# EAGLE library part SIDE_PORT_TI99_CONN (library ti994a)
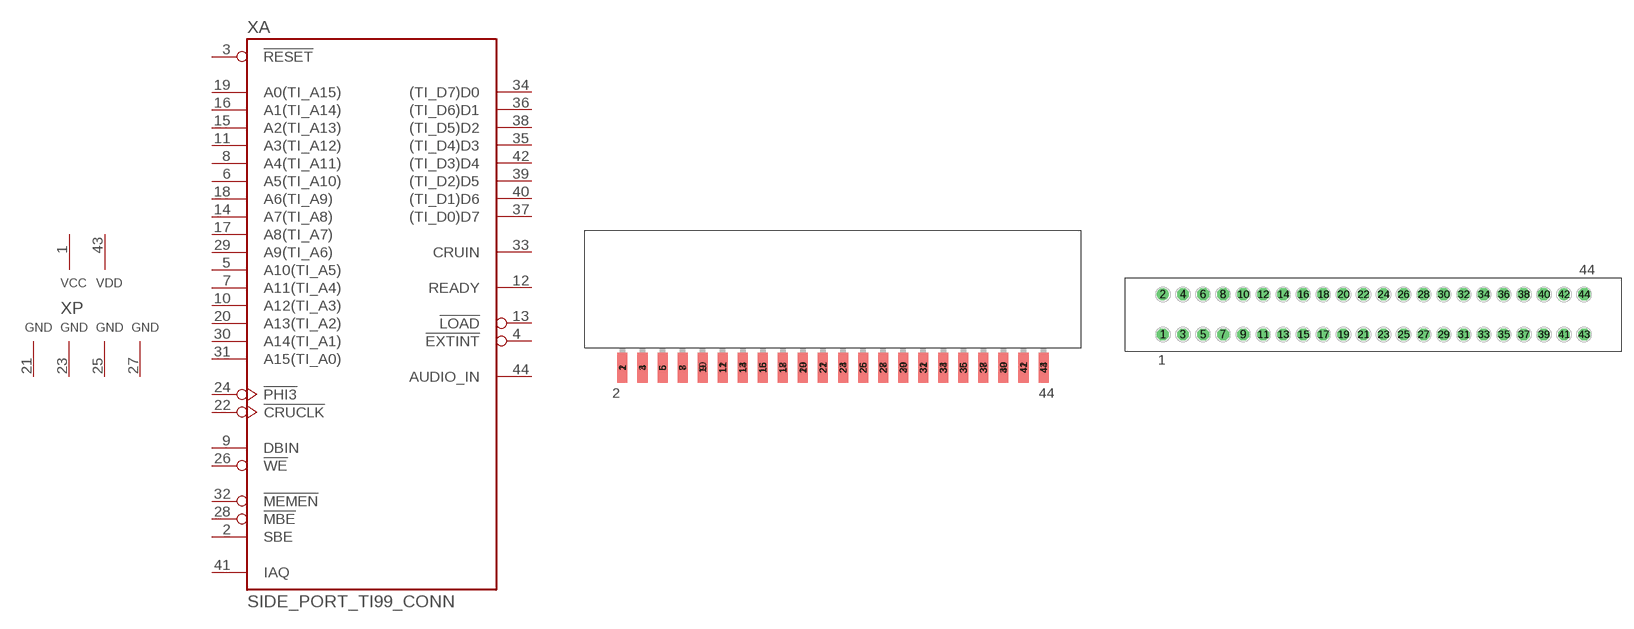
[diagram p1: symbol with the pads of FE100-22-2_EDGE; footprints FE100-22-2_EDGE, FE100-22-2]

Designator prefix X; gates A=TI994/A_SIDE_CONN P=PWR_VCC_VDD_4GND

## SIDE_PORT_TI99_CONN  [FE100-22-2_EDGE]
1  P:VCC  pwr
2  A:SBE  out
3  A:!RESET  pas
4  A:!EXTINT  hiz
5  A:A10(TI_A5)  out
6  A:A5(TI_A10)  out
7  A:A11(TI_A4)  out
8  A:A4(TI_A11)  out
9  A:DBIN  out
10  A:A12(TI_A3)  out
11  A:A3(TI_A12)  out
12  A:READY  in
13  A:!LOAD  hiz
14  A:A7(TI_A8)  out
15  A:A2(TI_A13)  out
16  A:A1(TI_A14)  out
17  A:A8(TI_A7)  out
18  A:A6(TI_A9)  out
19  A:A0(TI_A15)  out
20  A:A13(TI_A2)  out
21  P:GND  pwr
22  A:!CRUCLK  out
23  P:GND  pwr
24  A:!PHI3  out
25  P:GND  pwr
26  A:!WE  out
27  P:GND  pwr
28  A:!MBE  out
29  A:A9(TI_A6)  out
30  A:A14(TI_A1)  out
31  A:A15(TI_A0)  out
32  A:!MEMEN  out
33  A:CRUIN  in
34  A:(TI_D7)D0
35  A:(TI_D4)D3
36  A:(TI_D6)D1
37  A:(TI_D0)D7
38  A:(TI_D5)D2
39  A:(TI_D2)D5
40  A:(TI_D1)D6
41  A:IAQ  out
42  A:(TI_D3)D4
43  P:VDD  pwr
44  A:AUDIO_IN  pas

## SIDE_PORT_TI99_CONNR  [FE100-22-2]
Pads as for FE100-22-2_EDGE

## Footprint FE100-22-2_EDGE (pad centres in mm)
smd 1.27 x 3.81 bottom: 1 -26.67,0; 3 -24.13,0; 5 -21.59,0; 7 -19.05,0; 9 -16.51,0; 11 -13.97,0; 13 -11.43,0; 15 -8.89,0; 17 -6.35,0; 19 -3.81,0; 21 -1.27,0; 23 1.27,0; 25 3.81,0; 27 6.35,0; 29 8.89,0; 31 11.43,0; 33 13.97,0; 35 16.51,0; 37 19.05,0; 39 21.59,0; 41 24.13,0; 43 26.67,0
smd 1.27 x 3.81: 2 -26.67,0; 4 -24.13,0; 6 -21.59,0; 8 -19.05,0; 10 -16.51,0; 12 -13.97,0; 14 -11.43,0; 16 -8.89,0; 18 -6.35,0; 20 -3.81,0; 22 -1.27,0; 24 1.27,0; 26 3.81,0; 28 6.35,0; 30 8.89,0; 32 11.43,0; 34 13.97,0; 36 16.51,0; 38 19.05,0; 40 21.59,0; 42 24.13,0; 44 26.67,0

## Footprint FE100-22-2 (pad centres in mm)
drill 1 octagon: 1 -26.67,-2.54; 3 -24.13,-2.54; 4 -24.13,2.54; 5 -21.59,-2.54; 6 -21.59,2.54; 7 -19.05,-2.54; 8 -19.05,2.54; 9 -16.51,-2.54; 10 -16.51,2.54; 11 -13.97,-2.54; 12 -13.97,2.54; 13 -11.43,-2.54; 14 -11.43,2.54; 15 -8.89,-2.54; 16 -8.89,2.54; 17 -6.35,-2.54; 18 -6.35,2.54; 19 -3.81,-2.54; 20 -3.81,2.54; 21 -1.27,-2.54; 22 -1.27,2.54; 23 1.27,-2.54; 24 1.27,2.54; 25 3.81,-2.54; 26 3.81,2.54; 27 6.35,-2.54; 28 6.35,2.54; 29 8.89,-2.54; 30 8.89,2.54; 31 11.43,-2.54; 32 11.43,2.54; 33 13.97,-2.54; 34 13.97,2.54; 35 16.51,-2.54; 36 16.51,2.54; 37 19.05,-2.54; 38 19.05,2.54; 39 21.59,-2.54; 40 21.59,2.54; 41 24.13,-2.54; 43 26.67,-2.54; 44 26.67,2.54
drill 1: 2 -26.67,2.54; 42 24.13,2.54